# Altium footprint library SamacSys.PcbLib: 20 footprints (part 1 of 2)
Each footprint in its own frame and in the unit in brackets; x right, y up, seen from the top. Pads: shape width x height; smd on the part's side, far side on the other; paste and mask are expansions set on the pad; w line width, h text height; cw(c..) or ccw(c..) is an arc to the next point about the centre after c.
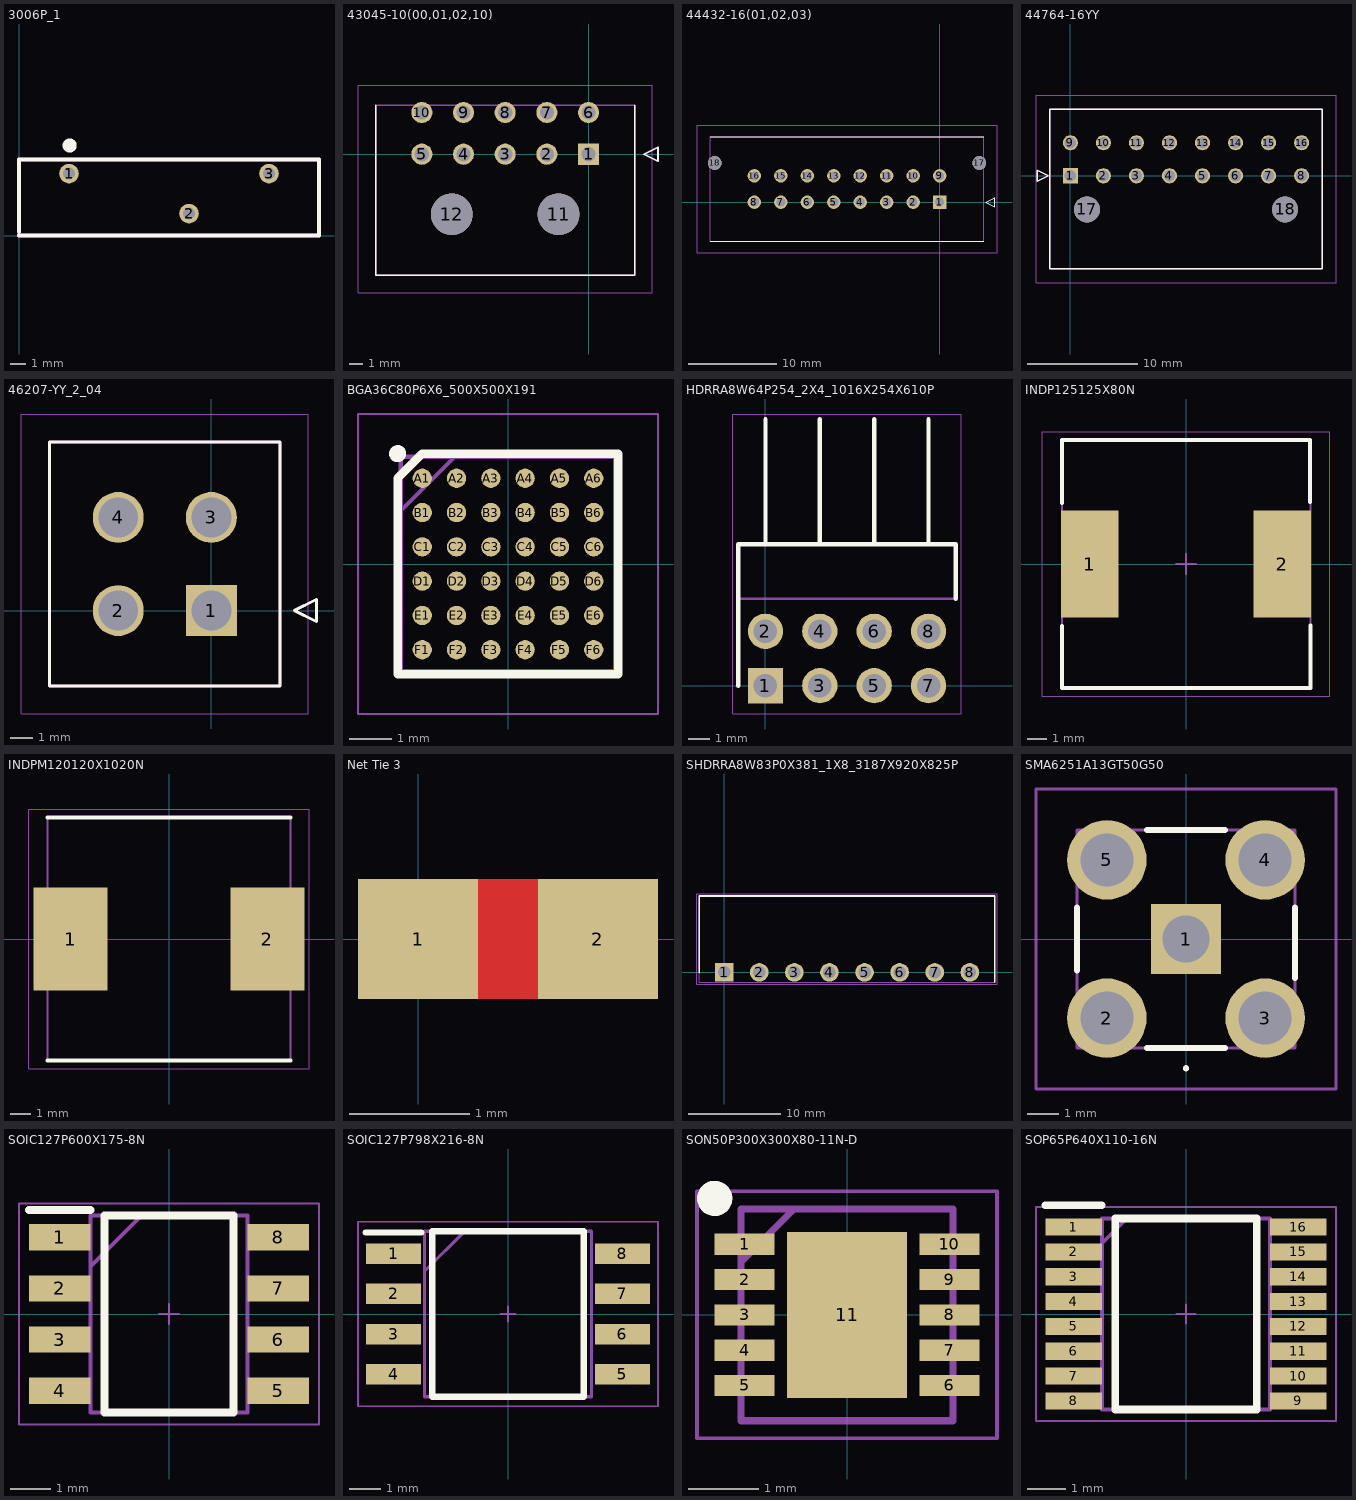
[diagram p0: the footprints below, top view; thin cyan lines are the x and y axes]

## 3006P_1 [mm]
pads (3):
  round 1.24 hole 0.74: 1(3.175,3.94) 2(10.795,1.4) 3(15.875,3.94)
Top Overlay:
  circle w0.5: c3.215,5.723 r0.198
  lines w0.254: 0,0 19.05,0 19.05,4.83 0,4.83 0,0.255
Mechanical 13:
  lines w0.254: 0,0 19.05,0 19.05,4.83 0,4.83 0,0
3D body "3006P-1-504LF.stp": height 6.27, standoff -5.41, extent 0.125,0.545 20.695,5.375

## 43045-10(00,01,02,10) [mm]
pads (12):
  rect 1.52x1.52 hole 1.02: 1(0,0)
  round 1.52 hole 1.02: 2(-3,0) 3(-6,0) 4(-9,0) 5(-12,0) 6(0,3) 7(-3,3) 8(-6,3) 9(-9,3) 10(-12,3)
  round 3 hole 3 unplated: 11(-2.16,-4.32) 12(-9.84,-4.32)
Top Overlay:
  lines w0.127: -15.325,3.52 -15.325,-8.72 3.325,-8.72 3.325,3.52 ; 4,0 5,0.5 5,-0.5 4,0
Mechanical 13:
  lines w0.127: -15.325,-8.72 -15.325,3.52 3.325,3.52 3.325,-8.72 -15.325,-8.72 ; 4,0 5,0.5 5,-0.5 4,0
Mechanical 15:
  lines w0.05: -16.595,-9.99 -16.595,4.979 4.595,4.979 4.595,-9.99 -16.595,-9.99
3D body "43045-1000.stp": height 8.67, standoff -3.28, extent -15.335,-8.915 3.815,3.325

## 44432-16(01,02,03) [mm]
pads (18):
  rect 1.52x1.52 hole 1.02: 1(0,0)
  round 1.52 hole 1.02: 2(-3,0) 3(-6,0) 4(-9,0) 5(-12,0) 6(-15,0) 7(-18,0) 8(-21,0) 9(0,3) 10(-3,3) 11(-6,3) 12(-9,3) 13(-12,3) 14(-15,3) 15(-18,3) 16(-21,3)
  round 1.57 hole 1.57 unplated: 17(4.5,4.45) 18(-25.5,4.45)
Top Overlay:
  lines w0.127: -26,-4.45 5,-4.45 ; -26,7.45 5,7.45 ; 5.25,0 6.25,0.5 6.25,-0.5 5.25,0
Mechanical 13:
  lines w0.127: -26,-4.45 -26,7.45 5,7.45 5,-4.45 -26,-4.45 ; 5.25,0 6.25,0.5 6.25,-0.5 5.25,0
Mechanical 15:
  lines w0.05: -27.504,-5.72 -27.504,8.72 6.504,8.72 6.504,-5.72 -27.504,-5.72
3D body "44432-1601.stp": height 11.46, standoff -3.4, extent -26,-4.45 5,7.45

## 44764-16YY [mm]
pads (18):
  rect 1.37x1.37 hole 1.02: 1(0,0)
  round 1.37 hole 1.02: 2(3,0) 3(6,0) 4(9,0) 5(12,0) 6(15,0) 7(18,0) 8(21,0) 9(0,3) 10(3,3) 11(6,3) 12(9,3) 13(12,3) 14(15,3) 15(18,3) 16(21,3)
  round 2.36 hole 2.36 unplated: 17(1.5,-3.05) 18(19.5,-3.05)
Top Overlay:
  lines w0.127: -3,-0.5 -2,0 -3,0.5 -3,-0.5 ; -1.85,-8.45 -1.85,6.05 22.85,6.05 22.85,-8.45 -1.85,-8.45
Mechanical 13:
  lines w0.127: -3,-0.5 -2,0 -3,0.5 -3,-0.5 ; -1.85,-8.45 -1.85,6.05 22.85,6.05 22.85,-8.45 -1.85,-8.45
Mechanical 15:
  lines w0.05: -3.12,-9.72 -3.12,7.32 24.12,7.32 24.12,-9.72 -3.12,-9.72
3D body "44764-1601.stp": height 10.41, standoff -3.76, extent -1.844,-14.517 22.844,6.463

## 46207-YY_2_04 [mm]
pads (4):
  rect 2.3x2.3 hole 1.8: 1(0,0)
  round 2.3 hole 1.8: 2(-4.2,0) 3(0,4.2) 4(-4.2,4.2)
Top Overlay:
  lines w0.127: -7.3,-3.4 -7.3,7.6 3.1,7.6 3.1,-3.4 -7.3,-3.4 ; 3.75,0 4.75,0.5 4.75,-0.5 3.75,0
Mechanical 13:
  lines w0.127: -7.3,-3.4 -7.3,7.6 3.1,7.6 3.1,-3.4 -7.3,-3.4 ; 3.75,0 4.75,0.5 4.75,-0.5 3.75,0
Mechanical 15:
  lines w0.05: -8.57,-4.67 -8.57,8.87 4.37,8.87 4.37,-4.67 -8.57,-4.67
3D body "46207-1104.stp": height 13.5, standoff -4.56, extent -7.19,-2.91 3.107,8.09

## BGA36C80P6X6_500X500X191 [mm]
pads (36):
  round 0.45 smd: A1(-2,2) A2(-1.2,2) A3(-0.4,2) A4(0.4,2) A5(1.2,2) A6(2,2) B1(-2,1.2) B2(-1.2,1.2) B3(-0.4,1.2) B4(0.4,1.2) B5(1.2,1.2) B6(2,1.2) C1(-2,0.4) C2(-1.2,0.4) C3(-0.4,0.4) C4(0.4,0.4) C5(1.2,0.4) C6(2,0.4) D1(-2,-0.4) D2(-1.2,-0.4) D3(-0.4,-0.4) D4(0.4,-0.4) D5(1.2,-0.4) D6(2,-0.4) E1(-2,-1.2) E2(-1.2,-1.2) E3(-0.4,-1.2) E4(0.4,-1.2) E5(1.2,-1.2) E6(2,-1.2) F1(-2,-2) F2(-1.2,-2) F3(-0.4,-2) F4(0.4,-2) F5(1.2,-2) F6(2,-2)
Top Overlay:
  circle w0.2: c-2.575,2.575 r0.1
  lines w0.2: -2.575,-2.575 2.575,-2.575 2.575,2.575 -2,2.575 -2.575,2 -2.575,-2.575
Mechanical 15:
  lines w0.1: -2.5,1.25 -1.25,2.5 ; -2.5,-2.5 2.5,-2.5 2.5,2.5 -2.5,2.5 -2.5,-2.5
Mechanical 20:
  lines w0.05: -3.5,-3.5 3.5,-3.5 3.5,3.5 -3.5,3.5 -3.5,-3.5

## HDRRA8W64P254_2X4_1016X254X610P [mm]
pads (8):
  rect 1.65x1.65 hole 1.1: 1(0,0)
  round 1.65 hole 1.1: 2(0,2.54) 3(2.54,0) 4(2.54,2.54) 5(5.08,0) 6(5.08,2.54) 7(7.62,0) 8(7.62,2.54)
Top Overlay:
  lines w0.2: -1.27,0 -1.27,6.6 8.89,6.6 8.89,4.06 ; 0,6.6 0,12.44 ; 2.54,6.6 2.54,12.44 ; 5.08,6.6 5.08,12.44 ; 7.62,6.6 7.62,12.44
Mechanical 13:
  lines w0.1: -1.27,4.06 8.89,4.06 8.89,6.6 -1.27,6.6 -1.27,4.06
Mechanical 15:
  lines w0.05: -1.52,-1.325 -1.52,12.69 9.14,12.69 9.14,-1.325 -1.52,-1.325
3D body "TSW-104-08-F-D-RA.stp": height 6.1, standoff -2.29, extent -1.27,-0.32 8.89,12.44

## INDP125125X80N [mm] "Precision Wire Wound Inductor, 2-Leads, Body 12,50x12,50mm, IPC Medium Density"
height 8
pads (2):
  rect 2.9x5.4 smd: 1(-4.85,0) 2(4.85,0)
Top Overlay:
  lines w0.2: -6.25,-3.125 -6.25,-6.25 6.275,-6.25 6.275,-3.1 ; -6.25,3.075 -6.25,6.25 6.25,6.25 6.25,3.125
Mechanical 14:
  lines w0.1: -6.25,-6.25 6.275,-6.25 6.275,6.25 -6.25,6.25 -6.25,-6.25
Mechanical 15:
  lines w0.05: -7.225,-6.65 7.225,-6.65 7.225,6.65 -7.225,6.65 -7.225,-6.65
  lines w0.1: -0.5,0 0.5,0 ; 0,-0.5 0,0.5
3D body "SRR1280-1R4Y.stp": height 7.5, standoff 0, extent -6.25,-6.25 6.25,6.25

## INDPM120120X1020N [mm]
pads (2):
  rect 3.65x5.1 smd: 1(-4.85,0) 2(4.85,0)
Top Overlay:
  lines w0.2: -6,-6 6,-6 ; -6,6 6,6
Mechanical 14:
  lines w0.1: -6,-6 -6,6 6,6 6,-6 -6,-6
Mechanical 15:
  lines w0.05: -6.925,-6.4 6.925,-6.4 6.925,6.4 -6.925,6.4 -6.925,-6.4
3D body "SRR1280-1R4Y.stp": height 7.5, standoff 0, extent -6.25,-6.25 6.25,6.25

## Net Tie 3 [mm] "SMD Net Tie"
pads (2):
  rect 1x1 smd paste-0.064 mask-0.064: 1(0,0) 2(1.5,0)
Top Layer:
  lines w1: 0,0 1.5,0

## SHDRRA8W83P0X381_1X8_3187X920X825P [mm]
pads (8):
  rect 2.025x2.025 hole 1.35: 1(0,0)
  round 2.025 hole 1.35: 2(3.81,0) 3(7.62,0) 4(11.43,0) 5(15.24,0) 6(19.05,0) 7(22.86,0) 8(26.67,0)
Top Overlay:
  lines w0.2: -2.7,0 -2.7,8.3 29.37,8.3 29.37,-1.05
Mechanical 13:
  lines w0.1: -2.7,-1.05 29.37,-1.05 29.37,8.3 -2.7,8.3 -2.7,-1.05
Mechanical 15:
  lines w0.05: -2.95,-1.3 -2.95,8.55 29.62,8.55 29.62,-1.3 -2.95,-1.3
3D body "1803332.stp": height 2.2, standoff -8.45, extent -2.69,-1.164 29.18,8.13

## SMA6251A13GT50G50 [mm]
pads (5):
  rect 2.25x2.25 hole 1.5: 1(0,0)
  round 2.55 hole 1.7: 2(-2.54,-2.54) 3(2.54,-2.54) 4(2.54,2.54) 5(-2.54,2.54)
Top Overlay:
  lines w0.1: 0,-4.2 ccw(c0,-4.15) 0,-4.1 ccw(c0,-4.15) 0,-4.2
  lines w0.2: -3.5,-1 -3.5,1 ; -1.25,-3.5 1.25,-3.5 ; -1.25,3.5 1.25,3.5 ; 3.5,-1.25 3.5,1
Mechanical 13:
  lines w0.1: -3.5,-3.5 -3.5,3.5 3.5,3.5 3.5,-3.5 -3.5,-3.5
Mechanical 15:
  lines w0.1: -4.815,-4.815 -4.815,4.815 4.815,4.815 4.815,-4.815 -4.815,-4.815
3D body "SMA6251A1-3GT50G-50.stp": height 10.03, standoff -5, extent -3.5,-3.5 3.5,3.5

## SOIC127P600X175-8N [mm]
pads (8):
  rect 1.525x0.65 smd: 1(-2.712,1.905) 2(-2.712,0.635) 3(-2.712,-0.635) 4(-2.712,-1.905) 5(2.712,-1.905) 6(2.712,-0.635) 7(2.712,0.635) 8(2.712,1.905)
Top Overlay:
  lines w0.2: -3.475,2.58 -1.95,2.58 ; -1.6,-2.45 -1.6,2.45 1.6,2.45 1.6,-2.45 -1.6,-2.45
Mechanical 14:
  lines w0.1: -1.95,1.18 -0.68,2.45 ; -1.95,-2.45 -1.95,2.45 1.95,2.45 1.95,-2.45 -1.95,-2.45
Mechanical 15:
  lines w0.05: -0.25,0 0.25,0 ; 0,-0.25 0,0.25 ; -3.725,-2.75 -3.725,2.75 3.725,2.75 3.725,-2.75 -3.725,-2.75
3D body "NE555DR.stp": height 1.75, standoff 0, extent -3,-2.45 3,2.45

## SOIC127P798X216-8N [mm]
pads (8):
  rect 1.75x0.65 smd: 1(-3.625,1.905) 2(-3.625,0.635) 3(-3.625,-0.635) 4(-3.625,-1.905) 5(3.625,-1.905) 6(3.625,-0.635) 7(3.625,0.635) 8(3.625,1.905)
Top Overlay:
  lines w0.2: -4.5,2.58 -2.75,2.58 ; -2.4,-2.62 2.4,-2.62 2.4,2.62 -2.4,2.62 -2.4,-2.62
Mechanical 14:
  lines w0.1: -2.645,1.35 -1.375,2.62 ; -2.645,-2.62 2.645,-2.62 2.645,2.62 -2.645,2.62 -2.645,-2.62
Mechanical 15:
  lines w0.05: -0.25,0 0.25,0 ; 0,-0.25 0,0.25 ; -4.75,-2.925 4.75,-2.925 4.75,2.925 -4.75,2.925 -4.75,-2.925
3D body "AT25SF081-SHD-T.stp": height 2.16, standoff 0, extent -3.99,-2.62 3.99,2.62

## SON50P300X300X80-11N-D [mm]
pads (11):
  rect 0.85x0.3 smd: 1(-1.45,1) 2(-1.45,0.5) 3(-1.45,0) 4(-1.45,-0.5) 5(-1.45,-1) 6(1.45,-1) 7(1.45,-0.5) 8(1.45,0) 9(1.45,0.5) 10(1.45,1)
  rect 1.7x2.35 smd: 11(0,0)
Top Overlay:
  circle w0.25: c-1.875,1.65 r0.125
Mechanical 14:
  lines w0.1: -1.5,0.75 -0.75,1.5 ; -1.5,-1.5 -1.5,1.5 1.5,1.5 1.5,-1.5 -1.5,-1.5
Mechanical 15:
  lines w0.05: -0.25,0 0.25,0 ; 0,-0.25 0,0.25 ; -2.125,-1.75 2.125,-1.75 2.125,1.75 -2.125,1.75 -2.125,-1.75
3D body "FT200XD-R.stp": height 0.8, standoff 0, extent -1.55,-1.5 1.55,1.5

## SOP65P640X110-16N [mm]
pads (16):
  rect 1.475x0.45 smd: 1(-2.938,2.275) 2(-2.938,1.625) 3(-2.938,0.975) 4(-2.938,0.325) 5(-2.938,-0.325) 6(-2.938,-0.975) 7(-2.938,-1.625) 8(-2.938,-2.275) 9(2.938,-2.275) 10(2.938,-1.625) 11(2.938,-0.975) 12(2.938,-0.325) 13(2.938,0.325) 14(2.938,0.975) 15(2.938,1.625) 16(2.938,2.275)
Top Overlay:
  lines w0.2: -3.675,2.85 -2.2,2.85 ; -1.85,-2.5 1.85,-2.5 1.85,2.5 -1.85,2.5 -1.85,-2.5
Mechanical 14:
  lines w0.1: -2.2,1.85 -1.55,2.5 ; -2.2,-2.5 -2.2,2.5 2.2,2.5 2.2,-2.5 -2.2,-2.5
Mechanical 15:
  lines w0.05: -0.25,0 0.25,0 ; 0,-0.25 0,0.25 ; -3.925,-2.8 3.925,-2.8 3.925,2.8 -3.925,2.8 -3.925,-2.8
3D body "SC18IS600IPW_S8HP.stp": height 1.1, standoff 0, extent -3.2,-2.5 3.2,2.5